# Altium schematic symbol library NE555DR.Schlib: 1 symbol
Pins are listed as number, name and electrical type; pins without a type are passive.

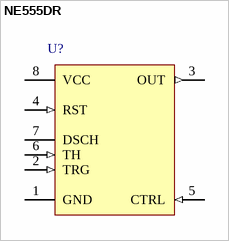
[diagram p0: symbol NE555DR]

## NE555DR
designator U?
pins: 1 GND (power), 2 TRG (in), 3 OUT (out), 4 RST (in), 5 CTRL (in), 6 TH (in), 7 DSCH (oc), 8 VCC (power)